# Altium schematic symbol library SCH - LEVELTRANSLATOR - TI LSF0108PWR.SCHLIB: 1 symbol
Pins are listed as number, name and electrical type; pins without a type are passive.

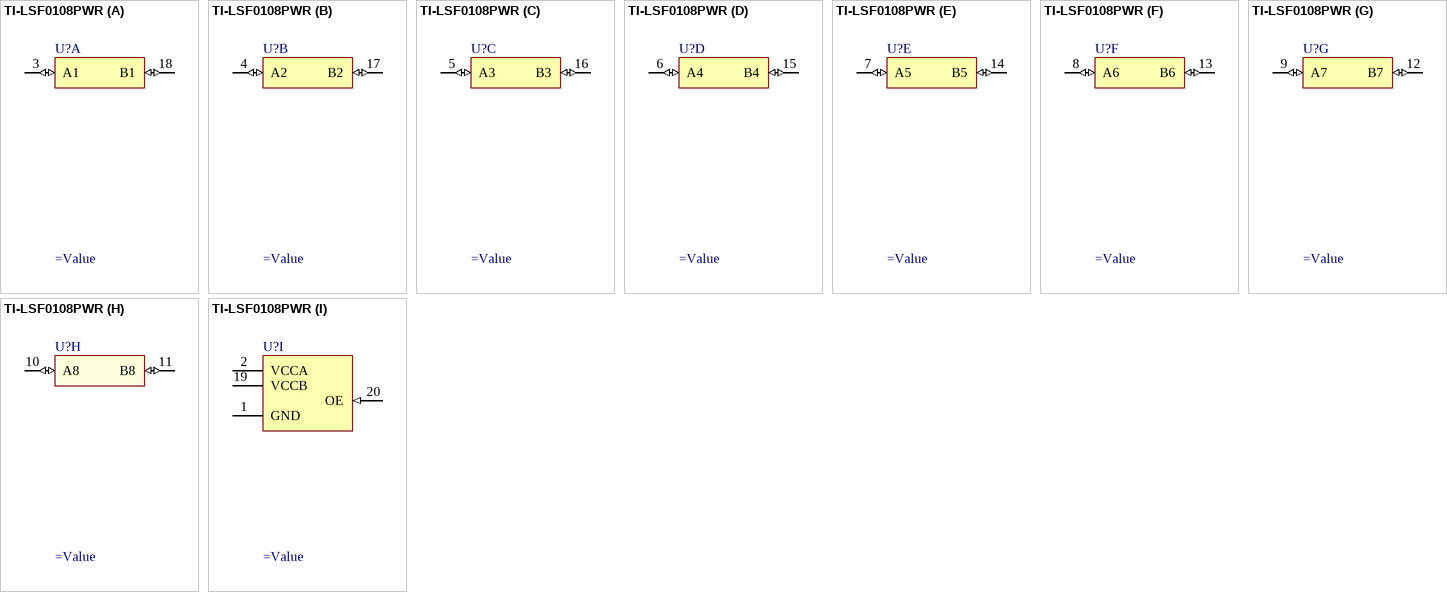
[diagram p0: symbol TI-LSF0108PWR]

## TI-LSF0108PWR
designator U?
Automotive 8-Channel Mulit-Voltage Level Translator
part A pins: 3 A1 (io), 18 B1 (io)
part B pins: 4 A2 (io), 17 B2 (io)
part C pins: 5 A3 (io), 16 B3 (io)
part D pins: 6 A4 (io), 15 B4 (io)
part E pins: 7 A5 (io), 14 B5 (io)
part F pins: 8 A6 (io), 13 B6 (io)
part G pins: 9 A7 (io), 12 B7 (io)
part H pins: 10 A8 (io), 11 B8 (io)
part I pins: 1 GND (power), 2 VCCA (power), 19 VCCB (power), 20 OE (in)